# Altium schematic symbol library SCH - DRIVER - LED - TI TPS61183_RTJ_20.SchLib: 1 symbol
Pins are listed as number, name and electrical type; pins without a type are passive.

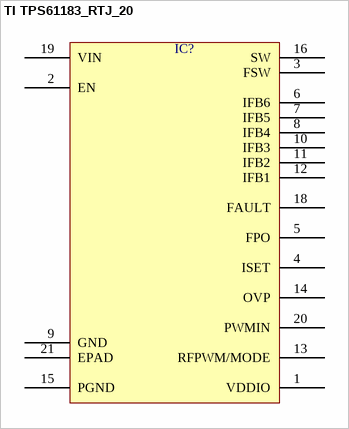
[diagram p0: symbol TI TPS61183_RTJ_20]

## TI TPS61183_RTJ_20
designator IC?  (value not drawn)
pins: 1 VDDIO, 2 EN, 3 FSW, 4 ISET, 5 FPO, 6 IFB6, 7 IFB5, 8 IFB4, 9 GND, 10 IFB3, 11 IFB2, 12 IFB1, 13 RFPWM/MODE, 14 OVP, 15 PGND, 16 SW, 18 FAULT, 19 VIN, 20 PWMIN, 21 EPAD